# EAGLE library part 74LVC1G10DW-7 (library 3-input-nand)
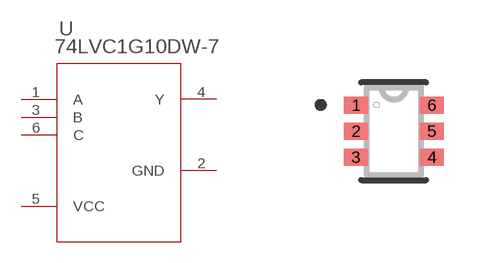
[diagram p0: symbol with the pads of SOT-363; footprint SOT-363]

Designator prefix U

## 74LVC1G10DW-7 (MANUFACTURER_PART_NUMBER: 74LVC1G10DW7; VENDOR: Diodes Inc)  [SOT-363]
1  A  in
2  GND  pwr
3  B  in
4  Y  out
5  VCC  pwr
6  C  in

## Footprint SOT-363 (pad centres in mm)
smd 0.6 x 0.42: 1 -0.95,0.65; 2 -0.95,0; 3 -0.95,-0.65; 4 0.95,-0.65; 5 0.95,0; 6 0.95,0.65